# Altium footprint library MCU_Footprint.PcbLib: 1 footprints
Each footprint in its own frame and in the unit in brackets; x right, y up, seen from the top. Pads: shape width x height; smd on the part's side, far side on the other; paste and mask are expansions set on the pad; w line width, h text height; cw(c..) or ccw(c..) is an arc to the next point about the centre after c.
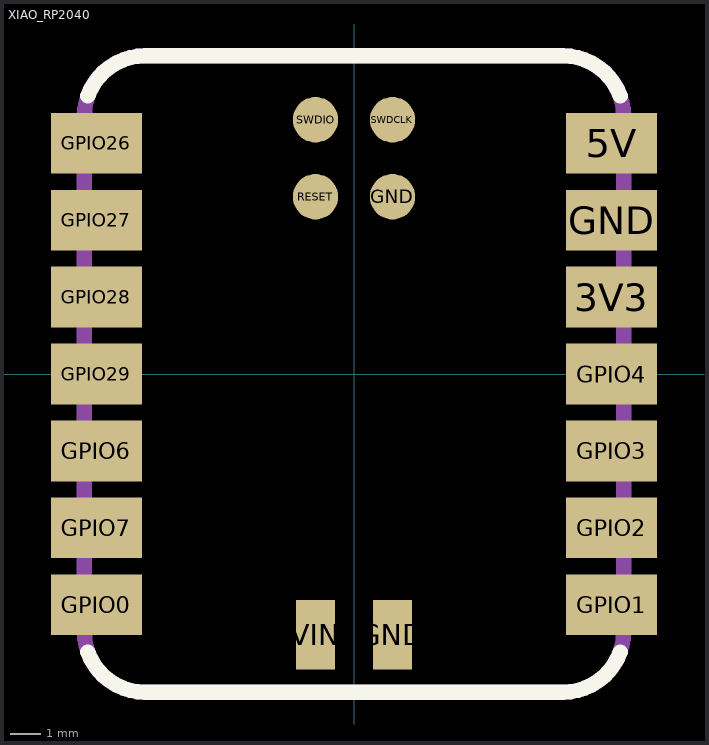
[diagram p0: the footprint, top view; thin cyan lines are the x and y axes]

## XIAO_RP2040 [mm] "Seed Studio Microcontroller, Mini and compact using the RP2040 Chip"
pads (20):
  rect 3x2 smd mask-2539.97: 3V3(8.5,2.54) 5V(8.5,7.62) GND(8.5,5.08) GPIO0(-8.5,-7.62) GPIO1(8.5,-7.62) GPIO2(8.5,-5.08) GPIO3(8.5,-2.54) GPIO4(8.5,0) GPIO6(-8.5,-2.54) GPIO7(-8.5,-5.08) GPIO26(-8.5,7.62) GPIO27(-8.5,5.08) GPIO28(-8.5,2.54) GPIO29(-8.5,0)
  rect 1.3x2.3 smd mask-2539.97: GND(1.27,-8.6) VIN(-1.27,-8.6)
  round 1.5 smd mask-2539.97: GND(1.27,5.85) RESET(-1.27,5.85) SWDCLK(1.27,8.39) SWDIO(-1.27,8.39)
Top Overlay:
  lines w0.5: -8.784,-9.17 ccw(c-6.9,-8.5) -6.9,-10.5 6.9,-10.5 ccw(c6.9,-8.5) 8.784,-9.17 ; -8.784,9.17 cw(c-6.9,8.5) -6.9,10.5 6.9,10.5 cw(c6.9,8.5) 8.784,9.17
Top Solder:
  region: -10.15,-3.69 -10.15,-1.39 -6.85,-1.39 -6.85,-3.69
  region: 6.85,-3.69 6.85,-1.39 10.15,-1.39 10.15,-3.69
  region: -10.15,-6.23 -10.15,-3.93 -6.85,-3.93 -6.85,-6.23
  region: 6.85,-6.23 6.85,-3.93 10.15,-3.93 10.15,-6.23
  region: -10.15,-8.77 -10.15,-6.47 -6.85,-6.47 -6.85,-8.77
  region: 6.85,-8.77 6.85,-6.47 10.15,-6.47 10.15,-8.77
  region: -10.15,6.47 -10.15,8.77 -6.85,8.77 -6.85,6.47
  region: 6.85,6.47 6.85,8.77 10.15,8.77 10.15,6.47
  region: -10.15,3.93 -10.15,6.23 -6.85,6.23 -6.85,3.93
  region: 6.85,3.93 6.85,6.23 10.15,6.23 10.15,3.93
  region: -10.15,1.39 -10.15,3.69 -6.85,3.69 -6.85,1.39
  region: 6.85,1.39 6.85,3.69 10.15,3.69 10.15,1.39
  region: -2.07,-9.9 -2.07,-7.3 -0.47,-7.3 -0.47,-9.9
  region: 0.47,-9.9 0.47,-7.3 2.07,-7.3 2.07,-9.9
  region: -10.15,-1.15 -10.15,1.15 -6.85,1.15 -6.85,-1.15
  region: 6.85,-1.15 6.85,1.15 10.15,1.15 10.15,-1.15
  circle w0.9: c1.27,5.85 r0.45
  circle w0.9: c-1.27,5.85 r0.45
  circle w0.9: c1.27,8.39 r0.45
  circle w0.9: c-1.27,8.39 r0.45
Mechanical 29:
  lines w0.5: -8.9,-8.5 ccw(c-6.9,-8.5) -6.9,-10.5 ; -8.9,-8.5 ccw(c-6.9,-8.5) -6.9,-10.5 ; -8.9,-8.5 -8.9,8.5 ; -8.9,-8.5 -8.9,8.5 ; -8.9,8.5 cw(c-6.9,8.5) -6.9,10.5 ; -8.9,8.5 cw(c-6.9,8.5) -6.9,10.5 ; -6.9,-10.5 6.9,-10.5 ; -6.9,-10.5 6.9,-10.5 ; -6.9,10.5 6.9,10.5 ; -6.9,10.5 6.9,10.5 ; 6.9,-10.5 ccw(c6.9,-8.5) 8.9,-8.5 ; 6.9,-10.5 ccw(c6.9,-8.5) 8.9,-8.5 ; 6.9,10.5 cw(c6.9,8.5) 8.9,8.5 ; 6.9,10.5 cw(c6.9,8.5) 8.9,8.5 ; 8.9,-8.5 8.9,8.5 ; 8.9,-8.5 8.9,8.5
  text ".Designator" at 0.15,0.483 h1
3D body "Seeed Studio XIAO RP2040 v26.step": height 4.41, standoff 0, extent -8.75,-10.5 8.75,11.5